# Altium footprint library CERAMIC_TH.PcbLib: 1 footprints
Each footprint in its own frame and in the unit in brackets; x right, y up, seen from the top. Pads: shape width x height; smd on the part's side, far side on the other; paste and mask are expansions set on the pad; w line width, h text height; cw(c..) or ccw(c..) is an arc to the next point about the centre after c.
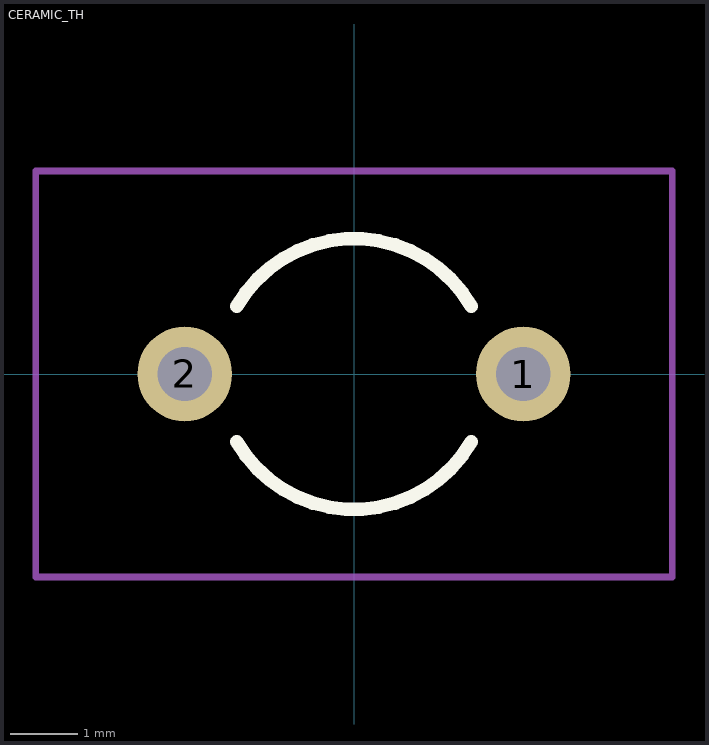
[diagram p0: the footprint, top view; thin cyan lines are the x and y axes]

## CERAMIC_TH [mm]
pads (2):
  round 1.4 hole 0.8: 1(2.5,0) 2(-2.5,0)
Top Overlay:
  lines w0.2: -1.732,-1 ccw(c0,0) 1.732,-1 ; -1.732,1 cw(c0,0) 1.732,1
Top Courtyard:
  lines w0.1: -4.7,0 -4.7,-3 ; -3,-3 -4.7,-3 ; 3,3 4.7,3 ; 4.7,0 4.7,3 ; -4.7,-3 -4.7,3 4.7,3 ; -4.7,-3 4.7,-3 4.7,3
3D body "User Library-D6x5.step": height 9, standoff -2, extent -3,-1.5 3,1.5